# Altium footprint library custom_components_ltk_mw.PcbLib: 4 footprints
Each footprint in its own frame and in the unit in brackets; x right, y up, seen from the top. Pads: shape width x height; smd on the part's side, far side on the other; paste and mask are expansions set on the pad; w line width, h text height; cw(c..) or ccw(c..) is an arc to the next point about the centre after c.
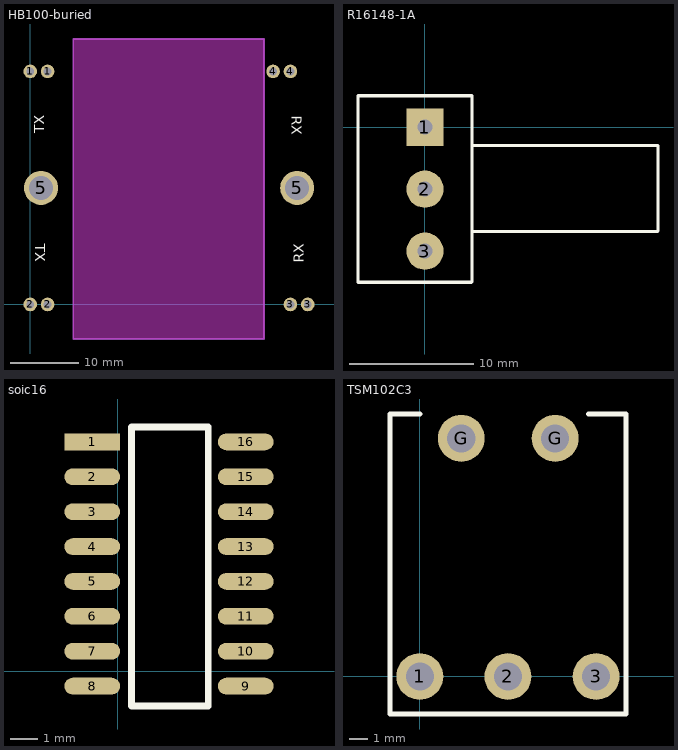
[diagram p0: the footprints below, top view; thin cyan lines are the x and y axes]

## HB100-buried [mm]
pads (10):
  round 2 hole 1.143: 1(0,34.188) 1(2.54,34.188) 2(0,0) 2(2.54,0) 3(38.151,0) 3(40.691,0) 4(35.611,34.188) 4(38.151,34.188)
  round 5 hole 3.5: 5(1.575,17.094) 5(39.141,17.094)
Top Overlay:
  text "RX" at 38.354,27.686 h1.52
  text "TX" at 0.762,8.89 h1.52
  text "TX" at 2.032,25.146 h1.52
  text "RX" at 40.132,6.096 h1.52
Keep-Out Layer:
  board cut-out: 6.286,38.934 34.286,38.934 34.286,-5.066 6.286,-5.066
Mechanical 1:
  lines w0.254: 6.286,-5.066 34.286,-5.066 34.286,38.934 6.286,38.934 6.286,-5.066
  text "## CUT CUT CUT ## / ## CUT CUT CUT ## / ## CUT CUT CUT ## / ## CUT CUT CUT ## / ## CUT CUT CUT ## / ## CUT CUT CUT ## / ## CUT CUT CUT ## / ## CUT CUT CUT ## / ## CUT CUT CUT ## / ## CUT CUT CUT ## / ## CUT CUT CUT ## / ## CUT CUT CUT ## / ## CUT CUT CUT ## / ## CUT CUT CUT ## / ## CUT CUT CUT ## / ## CUT CUT CUT ## / ## CUT CUT CUT ## / ## CUT CUT CUT ##" at 7.366,-4.826 h1.52
3D body "HB_100.step": height 3, standoff -4.7, extent -3.023,-2.997 43.477,37.003

## R16148-1A [mm]
pads (3):
  rect 3x3 hole 1.2: 1(0,0)
  round 3 hole 1.2: 2(0,-5) 3(0,-10)
Top Overlay:
  lines w0.254: 3.763,-12.5 -5.4,-12.5 -5.4,2.527 3.79,2.527 3.79,-12.473 ; 3.79,-8.4 18.761,-8.4 18.79,-8.371 18.79,-1.473 3.79,-1.473
Mechanical 1:
  lines w0.013: 18.79,-8.473 18.79,-4.973
3D body "B10K potentiometer 10K.stp": height 20.56, standoff -3.99, extent -5.2,-13.549 19.8,3.55

## soic16 [mil]
pads (16):
  rect 80x24 smd: 1(-36.26,328.7)
  oval 80x24 smd: 2(-36.26,278.7) 3(-36.26,228.7) 4(-36.26,178.7) 5(-36.26,128.7) 6(-36.26,78.7) 7(-36.26,28.7) 8(-36.26,-21.3) 9(183.74,-21.3) 10(183.74,28.7) 11(183.74,78.7) 12(183.74,128.7) 13(183.74,178.7) 14(183.74,228.7) 15(183.74,278.7) 16(183.74,328.7)
Top Overlay:
  lines w10: 20,-50 130,-50 130,350 20,350 20,-50
3D body: height 60, standoff 10, extent -11.26,-56.3 158.74,353.7
3D body: height 20, standoff 0, extent -56.26,320.7 -29.26,335.7
3D body: height 35, standoff 15, extent -42.76,320.7 -10.26,335.7
3D body: height 35, standoff 15, extent -42.76,270.7 -10.26,285.7
3D body: height 20, standoff 0, extent -56.26,270.7 -29.26,285.7
3D body: height 35, standoff 15, extent -42.76,220.7 -10.26,235.7
3D body: height 20, standoff 0, extent -56.26,220.7 -29.26,235.7
3D body: height 35, standoff 15, extent -42.76,170.7 -10.26,185.7
3D body: height 20, standoff 0, extent -56.26,170.7 -29.26,185.7
3D body: height 35, standoff 15, extent 157.74,171.7 190.24,186.7
3D body: height 20, standoff 0, extent 176.74,171.7 203.74,186.7
3D body: height 35, standoff 15, extent 157.74,221.7 190.24,236.7
3D body: height 20, standoff 0, extent 176.74,221.7 203.74,236.7
3D body: height 35, standoff 15, extent 157.74,271.7 190.24,286.7
3D body: height 20, standoff 0, extent 176.74,271.7 203.74,286.7
3D body: height 35, standoff 15, extent 157.74,321.7 190.24,336.7
3D body: height 20, standoff 0, extent 176.74,321.7 203.74,336.7
3D body: height 20, standoff 0, extent -56.26,120.7 -29.26,135.7
3D body: height 35, standoff 15, extent -42.76,120.7 -10.26,135.7
3D body: height 35, standoff 15, extent -42.76,70.7 -10.26,85.7
3D body: height 20, standoff 0, extent -56.26,70.7 -29.26,85.7
3D body: height 35, standoff 15, extent -42.76,20.7 -10.26,35.7
3D body: height 20, standoff 0, extent -56.26,20.7 -29.26,35.7
3D body: height 35, standoff 15, extent 157.74,21.7 190.24,36.7
3D body: height 20, standoff 0, extent 176.74,21.7 203.74,36.7
3D body: height 35, standoff 15, extent 157.74,71.7 190.24,86.7
3D body: height 20, standoff 0, extent 176.74,71.7 203.74,86.7
3D body: height 35, standoff 15, extent 157.74,121.7 190.24,136.7
3D body: height 20, standoff 0, extent 176.74,121.7 203.74,136.7
3D body: height 61, standoff 60, extent -0.26,319.7 19.66,339.66
3D body: height 61, standoff 60, extent 31.74,316.7 115.74,350.7
3D body: height 20, standoff 0, extent 176.74,-28.3 203.74,-13.3
3D body: height 35, standoff 15, extent 157.74,-28.3 190.24,-13.3
3D body: height 20, standoff 0, extent -56.26,-29.3 -29.26,-14.3
3D body: height 35, standoff 15, extent -42.76,-29.3 -10.26,-14.3

## TSM102C3 [mm]
pads (5):
  round 2.5 hole 1.5: 1(0,0) 2(4.699,0) 3(9.398,0) G(2.21,12.7) G(7.214,12.7)
Top Overlay:
  lines w0.254: 0,14 -1.6,14 -1.6,-2 11,-2 11,14 9,14
Mechanical 1:
  circle w0.013: c2.191,12.717 r0.95
  circle w0.013: c7.191,12.717 r0.95
  circle w0.013: c-0.009,0.017 r0.95
  circle w0.013: c9.391,0.017 r0.95
  circle w0.013: c4.691,0.017 r0.95
3D body "5232wcdb v3.step": height 8.47, standoff -2.28, extent -1.9,-0.65 11.3,34.15